# EAGLE library part FMC_HPC_M (library flipbit_fmc)
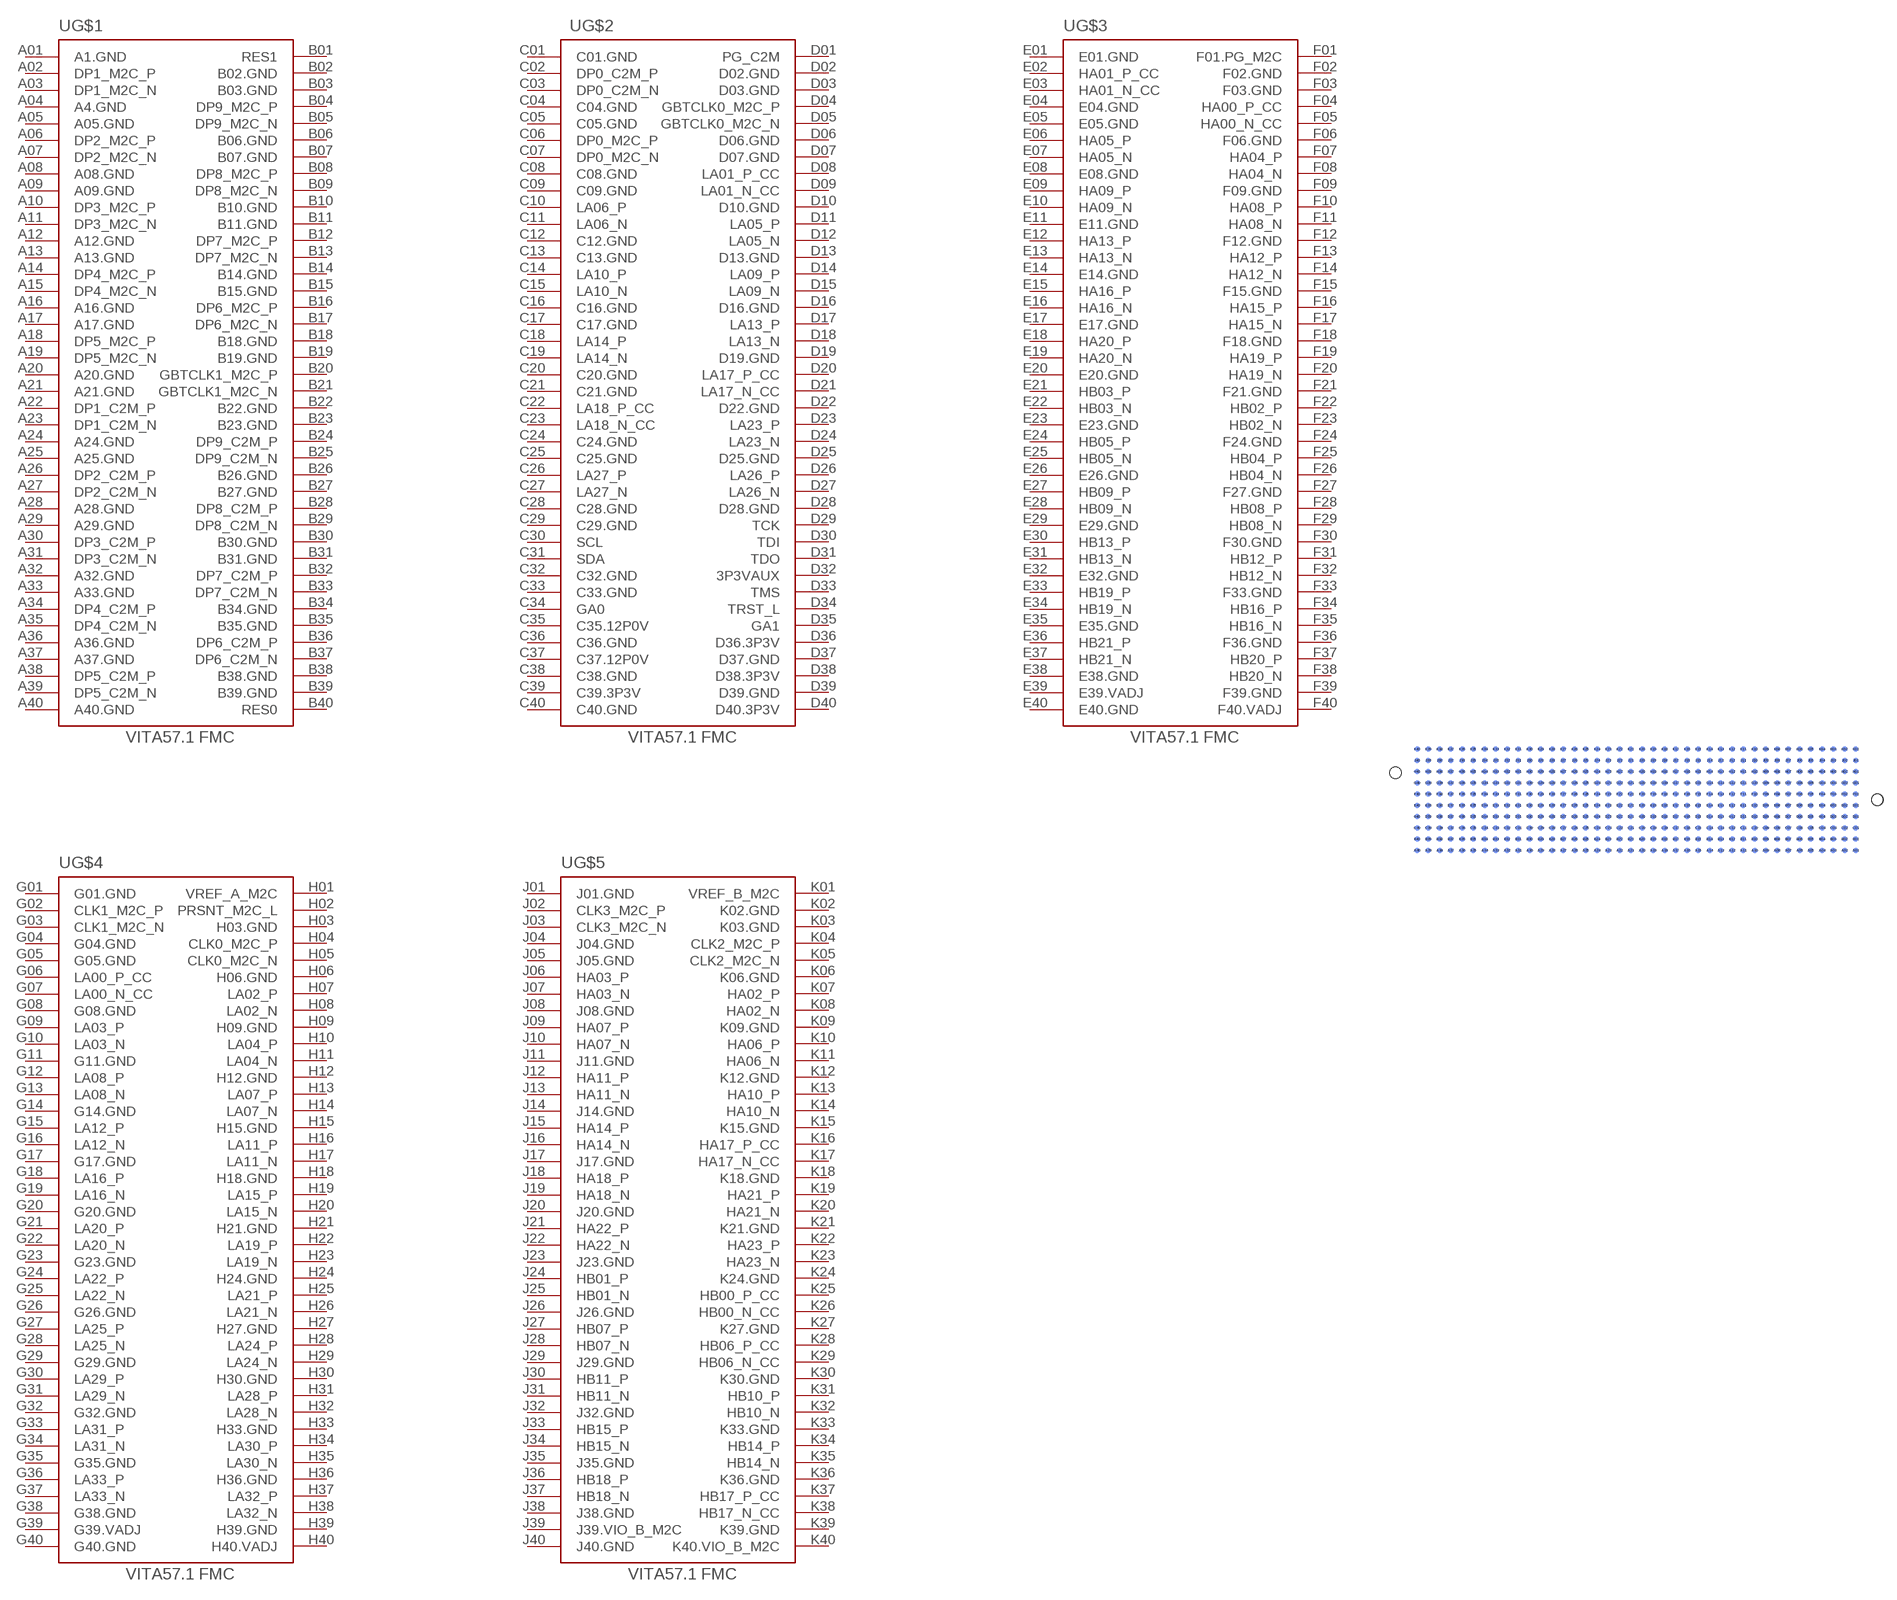
[diagram p1: symbol with the pads of ASP-134488-01; footprint ASP-134488-01]

Designator prefix -; gates G$1=FMC_AB G$2=FMC_CD G$3=FMC_EF G$4=FMC_GH G$5=FMC_JK

## FMC_HPC_M  [ASP-134488-01]
A01  G$1:A1.GND
A02  G$1:DP1_M2C_P
A03  G$1:DP1_M2C_N
A04  G$1:A4.GND
A05  G$1:A05.GND
A06  G$1:DP2_M2C_P
A07  G$1:DP2_M2C_N
A08  G$1:A08.GND
A09  G$1:A09.GND
A10  G$1:DP3_M2C_P
A11  G$1:DP3_M2C_N
A12  G$1:A12.GND
A13  G$1:A13.GND
A14  G$1:DP4_M2C_P
A15  G$1:DP4_M2C_N
A16  G$1:A16.GND
A17  G$1:A17.GND
A18  G$1:DP5_M2C_P
A19  G$1:DP5_M2C_N
A20  G$1:A20.GND
A21  G$1:A21.GND
A22  G$1:DP1_C2M_P
A23  G$1:DP1_C2M_N
A24  G$1:A24.GND
A25  G$1:A25.GND
A26  G$1:DP2_C2M_P
A27  G$1:DP2_C2M_N
A28  G$1:A28.GND
A29  G$1:A29.GND
A30  G$1:DP3_C2M_P
A31  G$1:DP3_C2M_N
A32  G$1:A32.GND
A33  G$1:A33.GND
A34  G$1:DP4_C2M_P
A35  G$1:DP4_C2M_N
A36  G$1:A36.GND
A37  G$1:A37.GND
A38  G$1:DP5_C2M_P
A39  G$1:DP5_C2M_N
A40  G$1:A40.GND
B01  G$1:RES1
B02  G$1:B02.GND
B03  G$1:B03.GND
B04  G$1:DP9_M2C_P
B05  G$1:DP9_M2C_N
B06  G$1:B06.GND
B07  G$1:B07.GND
B08  G$1:DP8_M2C_P
B09  G$1:DP8_M2C_N
B10  G$1:B10.GND
B11  G$1:B11.GND
B12  G$1:DP7_M2C_P
B13  G$1:DP7_M2C_N
B14  G$1:B14.GND
B15  G$1:B15.GND
B16  G$1:DP6_M2C_P
B17  G$1:DP6_M2C_N
B18  G$1:B18.GND
B19  G$1:B19.GND
B20  G$1:GBTCLK1_M2C_P
B21  G$1:GBTCLK1_M2C_N
B22  G$1:B22.GND
B23  G$1:B23.GND
B24  G$1:DP9_C2M_P
B25  G$1:DP9_C2M_N
B26  G$1:B26.GND
B27  G$1:B27.GND
B28  G$1:DP8_C2M_P
B29  G$1:DP8_C2M_N
B30  G$1:B30.GND
B31  G$1:B31.GND
B32  G$1:DP7_C2M_P
B33  G$1:DP7_C2M_N
B34  G$1:B34.GND
B35  G$1:B35.GND
B36  G$1:DP6_C2M_P
B37  G$1:DP6_C2M_N
B38  G$1:B38.GND
B39  G$1:B39.GND
B40  G$1:RES0
C01  G$2:C01.GND
C02  G$2:DP0_C2M_P
C03  G$2:DP0_C2M_N
C04  G$2:C04.GND
C05  G$2:C05.GND
C06  G$2:DP0_M2C_P
C07  G$2:DP0_M2C_N
C08  G$2:C08.GND
C09  G$2:C09.GND
C10  G$2:LA06_P
C11  G$2:LA06_N
C12  G$2:C12.GND
C13  G$2:C13.GND
C14  G$2:LA10_P
C15  G$2:LA10_N
C16  G$2:C16.GND
C17  G$2:C17.GND
C18  G$2:LA14_P
C19  G$2:LA14_N
C20  G$2:C20.GND
C21  G$2:C21.GND
C22  G$2:LA18_P_CC
C23  G$2:LA18_N_CC
C24  G$2:C24.GND
C25  G$2:C25.GND
C26  G$2:LA27_P
C27  G$2:LA27_N
C28  G$2:C28.GND
C29  G$2:C29.GND
C30  G$2:SCL
C31  G$2:SDA
C32  G$2:C32.GND
C33  G$2:C33.GND
C34  G$2:GA0
C35  G$2:C35.12P0V
C36  G$2:C36.GND
C37  G$2:C37.12P0V
C38  G$2:C38.GND
C39  G$2:C39.3P3V
C40  G$2:C40.GND
D01  G$2:PG_C2M
D02  G$2:D02.GND
D03  G$2:D03.GND
D04  G$2:GBTCLK0_M2C_P
D05  G$2:GBTCLK0_M2C_N
D06  G$2:D06.GND
D07  G$2:D07.GND
D08  G$2:LA01_P_CC
D09  G$2:LA01_N_CC
D10  G$2:D10.GND
D11  G$2:LA05_P
D12  G$2:LA05_N
D13  G$2:D13.GND
D14  G$2:LA09_P
D15  G$2:LA09_N
D16  G$2:D16.GND
D17  G$2:LA13_P
D18  G$2:LA13_N
D19  G$2:D19.GND
D20  G$2:LA17_P_CC
D21  G$2:LA17_N_CC
D22  G$2:D22.GND
D23  G$2:LA23_P
D24  G$2:LA23_N
D25  G$2:D25.GND
D26  G$2:LA26_P
D27  G$2:LA26_N
D28  G$2:D28.GND
D29  G$2:TCK
D30  G$2:TDI
D31  G$2:TDO
D32  G$2:3P3VAUX
D33  G$2:TMS
D34  G$2:TRST_L
D35  G$2:GA1
D36  G$2:D36.3P3V
D37  G$2:D37.GND
D38  G$2:D38.3P3V
D39  G$2:D39.GND
D40  G$2:D40.3P3V
E01  G$3:E01.GND
E02  G$3:HA01_P_CC
E03  G$3:HA01_N_CC
E04  G$3:E04.GND
E05  G$3:E05.GND
E06  G$3:HA05_P
E07  G$3:HA05_N
E08  G$3:E08.GND
E09  G$3:HA09_P
E10  G$3:HA09_N
E11  G$3:E11.GND
E12  G$3:HA13_P
E13  G$3:HA13_N
E14  G$3:E14.GND
E15  G$3:HA16_P
E16  G$3:HA16_N
E17  G$3:E17.GND
E18  G$3:HA20_P
E19  G$3:HA20_N
E20  G$3:E20.GND
E21  G$3:HB03_P
E22  G$3:HB03_N
E23  G$3:E23.GND
E24  G$3:HB05_P
E25  G$3:HB05_N
E26  G$3:E26.GND
E27  G$3:HB09_P
E28  G$3:HB09_N
E29  G$3:E29.GND
E30  G$3:HB13_P
E31  G$3:HB13_N
E32  G$3:E32.GND
E33  G$3:HB19_P
E34  G$3:HB19_N
E35  G$3:E35.GND
E36  G$3:HB21_P
E37  G$3:HB21_N
E38  G$3:E38.GND
E39  G$3:E39.VADJ
E40  G$3:E40.GND
F01  G$3:F01.PG_M2C
F02  G$3:F02.GND
F03  G$3:F03.GND
F04  G$3:HA00_P_CC
F05  G$3:HA00_N_CC
F06  G$3:F06.GND
F07  G$3:HA04_P
F08  G$3:HA04_N
F09  G$3:F09.GND
F10  G$3:HA08_P
F11  G$3:HA08_N
F12  G$3:F12.GND
F13  G$3:HA12_P
F14  G$3:HA12_N
F15  G$3:F15.GND
F16  G$3:HA15_P
F17  G$3:HA15_N
F18  G$3:F18.GND
F19  G$3:HA19_P
F20  G$3:HA19_N
F21  G$3:F21.GND
F22  G$3:HB02_P
F23  G$3:HB02_N
F24  G$3:F24.GND
F25  G$3:HB04_P
F26  G$3:HB04_N
F27  G$3:F27.GND
F28  G$3:HB08_P
F29  G$3:HB08_N
F30  G$3:F30.GND
F31  G$3:HB12_P
F32  G$3:HB12_N
F33  G$3:F33.GND
F34  G$3:HB16_P
F35  G$3:HB16_N
F36  G$3:F36.GND
F37  G$3:HB20_P
F38  G$3:HB20_N
F39  G$3:F39.GND
F40  G$3:F40.VADJ
G01  G$4:G01.GND
G02  G$4:CLK1_M2C_P
G03  G$4:CLK1_M2C_N
G04  G$4:G04.GND
G05  G$4:G05.GND
G06  G$4:LA00_P_CC
G07  G$4:LA00_N_CC
G08  G$4:G08.GND
G09  G$4:LA03_P
G10  G$4:LA03_N
G11  G$4:G11.GND
G12  G$4:LA08_P
G13  G$4:LA08_N
G14  G$4:G14.GND
G15  G$4:LA12_P
G16  G$4:LA12_N
G17  G$4:G17.GND
G18  G$4:LA16_P
G19  G$4:LA16_N
G20  G$4:G20.GND
G21  G$4:LA20_P
G22  G$4:LA20_N
G23  G$4:G23.GND
G24  G$4:LA22_P
G25  G$4:LA22_N
G26  G$4:G26.GND
G27  G$4:LA25_P
G28  G$4:LA25_N
G29  G$4:G29.GND
G30  G$4:LA29_P
G31  G$4:LA29_N
G32  G$4:G32.GND
G33  G$4:LA31_P
G34  G$4:LA31_N
G35  G$4:G35.GND
G36  G$4:LA33_P
G37  G$4:LA33_N
G38  G$4:G38.GND
G39  G$4:G39.VADJ
G40  G$4:G40.GND
H01  G$4:VREF_A_M2C
H02  G$4:PRSNT_M2C_L
H03  G$4:H03.GND
H04  G$4:CLK0_M2C_P
H05  G$4:CLK0_M2C_N
H06  G$4:H06.GND
H07  G$4:LA02_P
H08  G$4:LA02_N
H09  G$4:H09.GND
H10  G$4:LA04_P
H11  G$4:LA04_N
H12  G$4:H12.GND
H13  G$4:LA07_P
H14  G$4:LA07_N
H15  G$4:H15.GND
H16  G$4:LA11_P
H17  G$4:LA11_N
H18  G$4:H18.GND
H19  G$4:LA15_P
H20  G$4:LA15_N
H21  G$4:H21.GND
H22  G$4:LA19_P
H23  G$4:LA19_N
H24  G$4:H24.GND
H25  G$4:LA21_P
H26  G$4:LA21_N
H27  G$4:H27.GND
H28  G$4:LA24_P
H29  G$4:LA24_N
H30  G$4:H30.GND
H31  G$4:LA28_P
H32  G$4:LA28_N
H33  G$4:H33.GND
H34  G$4:LA30_P
H35  G$4:LA30_N
H36  G$4:H36.GND
H37  G$4:LA32_P
H38  G$4:LA32_N
H39  G$4:H39.GND
H40  G$4:H40.VADJ
J01  G$5:J01.GND
J02  G$5:CLK3_M2C_P
J03  G$5:CLK3_M2C_N
J04  G$5:J04.GND
J05  G$5:J05.GND
J06  G$5:HA03_P
J07  G$5:HA03_N
J08  G$5:J08.GND
J09  G$5:HA07_P
J10  G$5:HA07_N
J11  G$5:J11.GND
J12  G$5:HA11_P
J13  G$5:HA11_N
J14  G$5:J14.GND
J15  G$5:HA14_P
J16  G$5:HA14_N
J17  G$5:J17.GND
J18  G$5:HA18_P
J19  G$5:HA18_N
J20  G$5:J20.GND
J21  G$5:HA22_P
J22  G$5:HA22_N
J23  G$5:J23.GND
J24  G$5:HB01_P
J25  G$5:HB01_N
J26  G$5:J26.GND
J27  G$5:HB07_P
J28  G$5:HB07_N
J29  G$5:J29.GND
J30  G$5:HB11_P
J31  G$5:HB11_N
J32  G$5:J32.GND
J33  G$5:HB15_P
J34  G$5:HB15_N
J35  G$5:J35.GND
J36  G$5:HB18_P
J37  G$5:HB18_N
J38  G$5:J38.GND
J39  G$5:J39.VIO_B_M2C
J40  G$5:J40.GND
K01  G$5:VREF_B_M2C
K02  G$5:K02.GND
K03  G$5:K03.GND
K04  G$5:CLK2_M2C_P
K05  G$5:CLK2_M2C_N
K06  G$5:K06.GND
K07  G$5:HA02_P
K08  G$5:HA02_N
K09  G$5:K09.GND
K10  G$5:HA06_P
K11  G$5:HA06_N
K12  G$5:K12.GND
K13  G$5:HA10_P
K14  G$5:HA10_N
K15  G$5:K15.GND
K16  G$5:HA17_P_CC
K17  G$5:HA17_N_CC
K18  G$5:K18.GND
K19  G$5:HA21_P
K20  G$5:HA21_N
K21  G$5:K21.GND
K22  G$5:HA23_P
K23  G$5:HA23_N
K24  G$5:K24.GND
K25  G$5:HB00_P_CC
K26  G$5:HB00_N_CC
K27  G$5:K27.GND
K28  G$5:HB06_P_CC
K29  G$5:HB06_N_CC
K30  G$5:K30.GND
K31  G$5:HB10_P
K32  G$5:HB10_N
K33  G$5:K33.GND
K34  G$5:HB14_P
K35  G$5:HB14_N
K36  G$5:K36.GND
K37  G$5:HB17_P_CC
K38  G$5:HB17_N_CC
K39  G$5:K39.GND
K40  G$5:K40.VIO_B_M2C

## Footprint ASP-134488-01 (pad centres in mm)
smd 0.635 x 0.635 bottom: A01 24.765,-5.715; A02 23.495,-5.715; A03 22.225,-5.715; A04 20.955,-5.715; A05 19.685,-5.715; A06 18.415,-5.715; A07 17.145,-5.715; A08 15.875,-5.715; A09 14.605,-5.715; A10 13.335,-5.715; A11 12.065,-5.715; A12 10.795,-5.715; A13 9.525,-5.715; A14 8.255,-5.715; A15 6.985,-5.715; A16 5.715,-5.715; A17 4.445,-5.715; A18 3.175,-5.715; A19 1.905,-5.715; A20 0.635,-5.715; A21 -0.635,-5.715; A22 -1.905,-5.715; A23 -3.175,-5.715; A24 -4.445,-5.715; A25 -5.715,-5.715; A26 -6.985,-5.715; A27 -8.255,-5.715; A28 -9.525,-5.715; A29 -10.795,-5.715; A30 -12.065,-5.715; A31 -13.335,-5.715; A32 -14.605,-5.715; A33 -15.875,-5.715; A34 -17.145,-5.715; A35 -18.415,-5.715; A36 -19.685,-5.715; A37 -20.955,-5.715; A38 -22.225,-5.715; A39 -23.495,-5.715; A40 -24.765,-5.715; B01 24.765,-4.445; B02 23.495,-4.445; B03 22.225,-4.445; B04 20.955,-4.445; B05 19.685,-4.445; B06 18.415,-4.445; B07 17.145,-4.445; B08 15.875,-4.445; B09 14.605,-4.445; B10 13.335,-4.445; B11 12.065,-4.445; B12 10.795,-4.445; B13 9.525,-4.445; B14 8.255,-4.445; B15 6.985,-4.445; B16 5.715,-4.445; B17 4.445,-4.445; B18 3.175,-4.445; B19 1.905,-4.445; B20 0.635,-4.445; B21 -0.635,-4.445; B22 -1.905,-4.445; B23 -3.175,-4.445; B24 -4.445,-4.445; B25 -5.715,-4.445; B26 -6.985,-4.445; B27 -8.255,-4.445; B28 -9.525,-4.445; B29 -10.795,-4.445; B30 -12.065,-4.445; B31 -13.335,-4.445; B32 -14.605,-4.445; B33 -15.875,-4.445; B34 -17.145,-4.445; B35 -18.415,-4.445; B36 -19.685,-4.445; B37 -20.955,-4.445; B38 -22.225,-4.445; B39 -23.495,-4.445; B40 -24.765,-4.445; C01 24.765,-3.175; C02 23.495,-3.175; C03 22.225,-3.175; C04 20.955,-3.175; C05 19.685,-3.175; C06 18.415,-3.175; C07 17.145,-3.175; C08 15.875,-3.175; C09 14.605,-3.175; C10 13.335,-3.175; C11 12.065,-3.175; C12 10.795,-3.175; C13 9.525,-3.175; C14 8.255,-3.175; C15 6.985,-3.175; C16 5.715,-3.175; C17 4.445,-3.175; C18 3.175,-3.175; C19 1.905,-3.175; C20 0.635,-3.175; C21 -0.635,-3.175; C22 -1.905,-3.175; C23 -3.175,-3.175; C24 -4.445,-3.175; C25 -5.715,-3.175; C26 -6.985,-3.175; C27 -8.255,-3.175; C28 -9.525,-3.175; C29 -10.795,-3.175; C30 -12.065,-3.175; C31 -13.335,-3.175; C32 -14.605,-3.175; C33 -15.875,-3.175; C34 -17.145,-3.175; C35 -18.415,-3.175; C36 -19.685,-3.175; C37 -20.955,-3.175; C38 -22.225,-3.175; C39 -23.495,-3.175; C40 -24.765,-3.175; D01 24.765,-1.905; D02 23.495,-1.905; D03 22.225,-1.905; D04 20.955,-1.905; D05 19.685,-1.905; D06 18.415,-1.905; D07 17.145,-1.905; D08 15.875,-1.905; D09 14.605,-1.905; D10 13.335,-1.905; D11 12.065,-1.905; D12 10.795,-1.905; D13 9.525,-1.905; D14 8.255,-1.905; D15 6.985,-1.905; D16 5.715,-1.905; D17 4.445,-1.905; D18 3.175,-1.905; D19 1.905,-1.905; D20 0.635,-1.905; D21 -0.635,-1.905; D22 -1.905,-1.905; D23 -3.175,-1.905; D24 -4.445,-1.905; D25 -5.715,-1.905; D26 -6.985,-1.905; D27 -8.255,-1.905; D28 -9.525,-1.905; D29 -10.795,-1.905; D30 -12.065,-1.905; D31 -13.335,-1.905; D32 -14.605,-1.905; D33 -15.875,-1.905; D34 -17.145,-1.905; D35 -18.415,-1.905; D36 -19.685,-1.905; D37 -20.955,-1.905; D38 -22.225,-1.905; D39 -23.495,-1.905; D40 -24.765,-1.905; E01 24.765,-0.635; E02 23.495,-0.635; E03 22.225,-0.635; E04 20.955,-0.635; E05 19.685,-0.635; E06 18.415,-0.635; E07 17.145,-0.635; E08 15.875,-0.635; E09 14.605,-0.635; E10 13.335,-0.635; E11 12.065,-0.635; E12 10.795,-0.635; E13 9.525,-0.635; E14 8.255,-0.635; E15 6.985,-0.635; E16 5.715,-0.635; E17 4.445,-0.635; E18 3.175,-0.635; E19 1.905,-0.635; E20 0.635,-0.635; E21 -0.635,-0.635; E22 -1.905,-0.635; E23 -3.175,-0.635; E24 -4.445,-0.635; E25 -5.715,-0.635; E26 -6.985,-0.635; E27 -8.255,-0.635; E28 -9.525,-0.635; E29 -10.795,-0.635; E30 -12.065,-0.635; E31 -13.335,-0.635; E32 -14.605,-0.635; E33 -15.875,-0.635; E34 -17.145,-0.635; E35 -18.415,-0.635; E36 -19.685,-0.635; E37 -20.955,-0.635; E38 -22.225,-0.635; E39 -23.495,-0.635; E40 -24.765,-0.635; F01 24.765,0.635; F02 23.495,0.635; F03 22.225,0.635; F04 20.955,0.635; F05 19.685,0.635; F06 18.415,0.635; F07 17.145,0.635; F08 15.875,0.635; F09 14.605,0.635; F10 13.335,0.635; F11 12.065,0.635; F12 10.795,0.635; F13 9.525,0.635; F14 8.255,0.635; F15 6.985,0.635; F16 5.715,0.635; F17 4.445,0.635; F18 3.175,0.635; F19 1.905,0.635; F20 0.635,0.635; F21 -0.635,0.635; F22 -1.905,0.635; F23 -3.175,0.635; F24 -4.445,0.635; F25 -5.715,0.635; F26 -6.985,0.635; F27 -8.255,0.635; F28 -9.525,0.635; F29 -10.795,0.635; F30 -12.065,0.635; F31 -13.335,0.635; F32 -14.605,0.635; F33 -15.875,0.635; F34 -17.145,0.635; F35 -18.415,0.635; F36 -19.685,0.635; F37 -20.955,0.635; F38 -22.225,0.635; F39 -23.495,0.635; F40 -24.765,0.635; G01 24.765,1.905; G02 23.495,1.905; G03 22.225,1.905; G04 20.955,1.905; G05 19.685,1.905; G06 18.415,1.905; G07 17.145,1.905; G08 15.875,1.905; G09 14.605,1.905; G10 13.335,1.905; G11 12.065,1.905; G12 10.795,1.905; G13 9.525,1.905; G14 8.255,1.905; G15 6.985,1.905; G16 5.715,1.905; G17 4.445,1.905; G18 3.175,1.905; G19 1.905,1.905; G20 0.635,1.905; G21 -0.635,1.905; G22 -1.905,1.905; G23 -3.175,1.905; G24 -4.445,1.905; G25 -5.715,1.905; G26 -6.985,1.905; G27 -8.255,1.905; G28 -9.525,1.905; G29 -10.795,1.905; G30 -12.065,1.905; G31 -13.335,1.905; G32 -14.605,1.905; G33 -15.875,1.905; G34 -17.145,1.905; G35 -18.415,1.905; G36 -19.685,1.905; G37 -20.955,1.905; G38 -22.225,1.905; G39 -23.495,1.905; G40 -24.765,1.905; H01 24.765,3.175; H02 23.495,3.175; H03 22.225,3.175; H04 20.955,3.175; H05 19.685,3.175; H06 18.415,3.175; H07 17.145,3.175; H08 15.875,3.175; H09 14.605,3.175; H10 13.335,3.175; H11 12.065,3.175; H12 10.795,3.175; H13 9.525,3.175; H14 8.255,3.175; H15 6.985,3.175; H16 5.715,3.175; H17 4.445,3.175; H18 3.175,3.175; H19 1.905,3.175; H20 0.635,3.175; H21 -0.635,3.175; H22 -1.905,3.175; H23 -3.175,3.175; H24 -4.445,3.175; H25 -5.715,3.175; H26 -6.985,3.175; H27 -8.255,3.175; H28 -9.525,3.175; H29 -10.795,3.175; H30 -12.065,3.175; H31 -13.335,3.175; H32 -14.605,3.175; H33 -15.875,3.175; H34 -17.145,3.175; H35 -18.415,3.175; H36 -19.685,3.175; H37 -20.955,3.175; H38 -22.225,3.175; H39 -23.495,3.175; H40 -24.765,3.175; J01 24.765,4.445; J02 23.495,4.445; J03 22.225,4.445; J04 20.955,4.445; J05 19.685,4.445; J06 18.415,4.445; J07 17.145,4.445; J08 15.875,4.445; J09 14.605,4.445; J10 13.335,4.445; J11 12.065,4.445; J12 10.795,4.445; J13 9.525,4.445; J14 8.255,4.445; J15 6.985,4.445; J16 5.715,4.445; J17 4.445,4.445; J18 3.175,4.445; J19 1.905,4.445; J20 0.635,4.445; J21 -0.635,4.445; J22 -1.905,4.445; J23 -3.175,4.445; J24 -4.445,4.445; J25 -5.715,4.445; J26 -6.985,4.445; J27 -8.255,4.445; J28 -9.525,4.445; J29 -10.795,4.445; J30 -12.065,4.445; J31 -13.335,4.445; J32 -14.605,4.445; J33 -15.875,4.445; J34 -17.145,4.445; J35 -18.415,4.445; J36 -19.685,4.445; J37 -20.955,4.445; J38 -22.225,4.445; J39 -23.495,4.445; J40 -24.765,4.445; K01 24.765,5.715; K02 23.495,5.715; K03 22.225,5.715; K04 20.955,5.715; K05 19.685,5.715; K06 18.415,5.715; K07 17.145,5.715; K08 15.875,5.715; K09 14.605,5.715; K10 13.335,5.715; K11 12.065,5.715; K12 10.795,5.715; K13 9.525,5.715; K14 8.255,5.715; K15 6.985,5.715; K16 5.715,5.715; K17 4.445,5.715; K18 3.175,5.715; K19 1.905,5.715; K20 0.635,5.715; K21 -0.635,5.715; K22 -1.905,5.715; K23 -3.175,5.715; K24 -4.445,5.715; K25 -5.715,5.715; K26 -6.985,5.715; K27 -8.255,5.715; K28 -9.525,5.715; K29 -10.795,5.715; K30 -12.065,5.715; K31 -13.335,5.715; K32 -14.605,5.715; K33 -15.875,5.715; K34 -17.145,5.715; K35 -18.415,5.715; K36 -19.685,5.715; K37 -20.955,5.715; K38 -22.225,5.715; K39 -23.495,5.715; K40 -24.765,5.715
hole 1.27 at 27.191,0
hole 1.27 at 27.191,0
hole 1.321 at 27.191,0
hole 1.321 at -27.191,3.048